# Altium footprint library stm32底盘_PCB_V1.0.PcbLib: 18 footprints (part 2 of 2)
Each footprint in its own frame and in the unit in brackets; x right, y up, seen from the top. Pads: shape width x height; smd on the part's side, far side on the other; paste and mask are expansions set on the pad; w line width, h text height; cw(c..) or ccw(c..) is an arc to the next point about the centre after c.
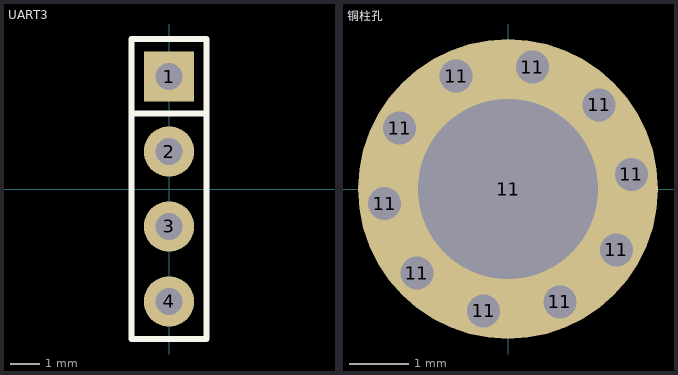
[diagram p1: the footprints below, top view; thin cyan lines are the x and y axes]

## UART3 [mm] "排母，20脚"
pads (4):
  rect 1.7x1.7 hole 0.9: 1(0,3.81)
  round 1.7 hole 0.9: 2(0,1.27) 3(0,-1.27) 4(0,-3.81)
Top Overlay:
  lines w0.2: -1.27,5.08 1.27,5.08 ; -1.25,2.56 1.25,2.56
  lines w0.203: -1.27,5.08 -1.27,-5.08 1.27,-5.08 1.27,5.08
3D body "HDR2.54-1P_M.STEP": height 8.5, standoff -3, extent -1.27,2.54 1.27,5.08
3D body "HDR2.54-1P_M.STEP": height 8.5, standoff -3, extent -1.27,0 1.27,2.54
3D body "HDR2.54-1P_M.STEP": height 8.5, standoff -3, extent -1.27,-2.54 1.27,0
3D body "HDR2.54-1P_M.STEP": height 8.5, standoff -3, extent -1.27,-5.08 1.27,-2.54

## 铜柱孔 [mil]
height 35.43
pads (11):
  round 23 hole 22: 11(-82.21,-9.67) 11(-72.19,40.5) 11(-60.83,-56.14) 11(-34.6,75.2) 11(-16.21,-81.17) 11(16.21,81.17) 11(34.6,-75.2) 11(60.83,56.14) 11(72.19,-40.5) 11(82.21,9.67)
  round 200 hole 120: 11(0,0)